# Altium schematic symbol library 1751413.SchLib: 1 symbol
Pins are listed as number, name and electrical type; pins without a type are passive.

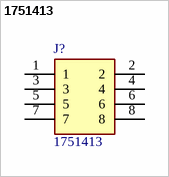
[diagram p0: symbol 1751413]

## 1751413
designator J?
PCB terminal block, 3.5mm pitch, 2 level; Manufacturer_Name: Phoenix Contact; Geometry.Height: 16.35mm; Manufacturer_Part_Number: 1751413; Mouser Part Number: 651-1751413; Mouser Price/Stock: https://www.mouser.co.uk/ProductDetail/Phoenix-Contact/1751413?qs=IooffJMZQA61yzSPaR8Rbw%3D%3D; Arrow Part Number: 1751413; Arrow Price/Stock: https://www.arrow.com/en/products/1751413/phoenix-contact?region=nac; Datasheet Link: https://datasheet.datasheetarchive.com/originals/distributors/SFDatasheet-2/sf-00051394.pdf
footprint 1751413
pins: 1, 2, 3, 4, 5, 6, 7, 8